# EAGLE library part NCP1729SN35T1G (library eko-parts)
Switched Capacitor Voltage Inverter
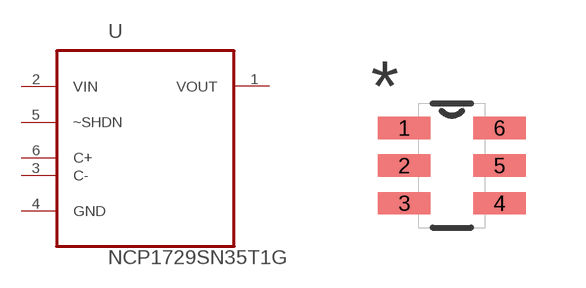
[diagram p9: symbol with the pads of SOP95P275X110-6N; footprint SOP95P275X110-6N]

Designator prefix U

## NCP1729SN35T1G (MPN: NCP1729SN35T1G; OC_FARNELL: 1652414; OC_NEWARK: 45J1868; PACKAGE: TSOP-6; SUPPLIER: ON SEMICONDUCTOR)  [SOP95P275X110-6N]
1  VOUT  out
2  VIN  pwr
3  C-  pas
4  GND  pas
5  ~SHDN  in
6  C+  pas

## Footprint SOP95P275X110-6N (pad centres in mm)
smd 1.321 x 0.559: 1 -1.194,0.94; 2 -1.194,0; 3 -1.194,-0.94; 4 1.194,-0.94; 5 1.194,0; 6 1.194,0.94